# Altium schematic symbol library D_TVS_ESD_2_Ch.SchLib: 1 symbol
Pins are listed as number, name and electrical type; pins without a type are passive.

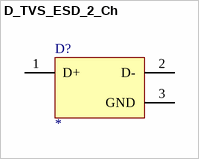
[diagram p0: symbol D_TVS_ESD_2_Ch]

## D_TVS_ESD_2_Ch
designator D?
pins: 1 D+ "High-speed ESD clamp, provides ESD protection to the high-speed differential data lines", 2 D- "High-speed ESD clamp, provides ESD protection to the high-speed differential data lines", 3 GND (power) "Ground"